# Altium schematic symbol library LEDs-Other.SchLib: 2 symbols
Pins are listed as number, name and electrical type; pins without a type are passive.

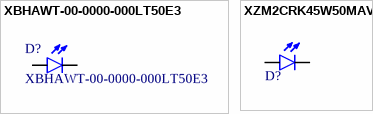
[diagram p0: symbols XBHAWT-00-0000-000LT50E3 to XZM2CRK45W50MAV-6]

## XBHAWT-00-0000-000LT50E3
designator D?
Manufacturer: Cree, Inc.; PartNumber: XBHAWT-00-0000-000LT50E3; PackageReference: SMD-2; Mounting Technology: Surface Mount
footprint XBHAWT
pins: A, C

## XZM2CRK45W50MAV-6
designator D?
PartNumber: XZM2CRK45W50MAV-6; Manufacturer: SunLED; PackageReference: 1411; PackageDescription: 1411 (3528 Metric); Mounting Technology: Surface Mount
footprint LED1411 (LED, 1411 chip package)
pins: A, C